# Altium footprint library 指南者.PcbLib: 53 footprints (part 2 of 4)
Each footprint in its own frame and in the unit in brackets; x right, y up, seen from the top. Pads: shape width x height; smd on the part's side, far side on the other; paste and mask are expansions set on the pad; w line width, h text height; cw(c..) or ccw(c..) is an arc to the next point about the centre after c.
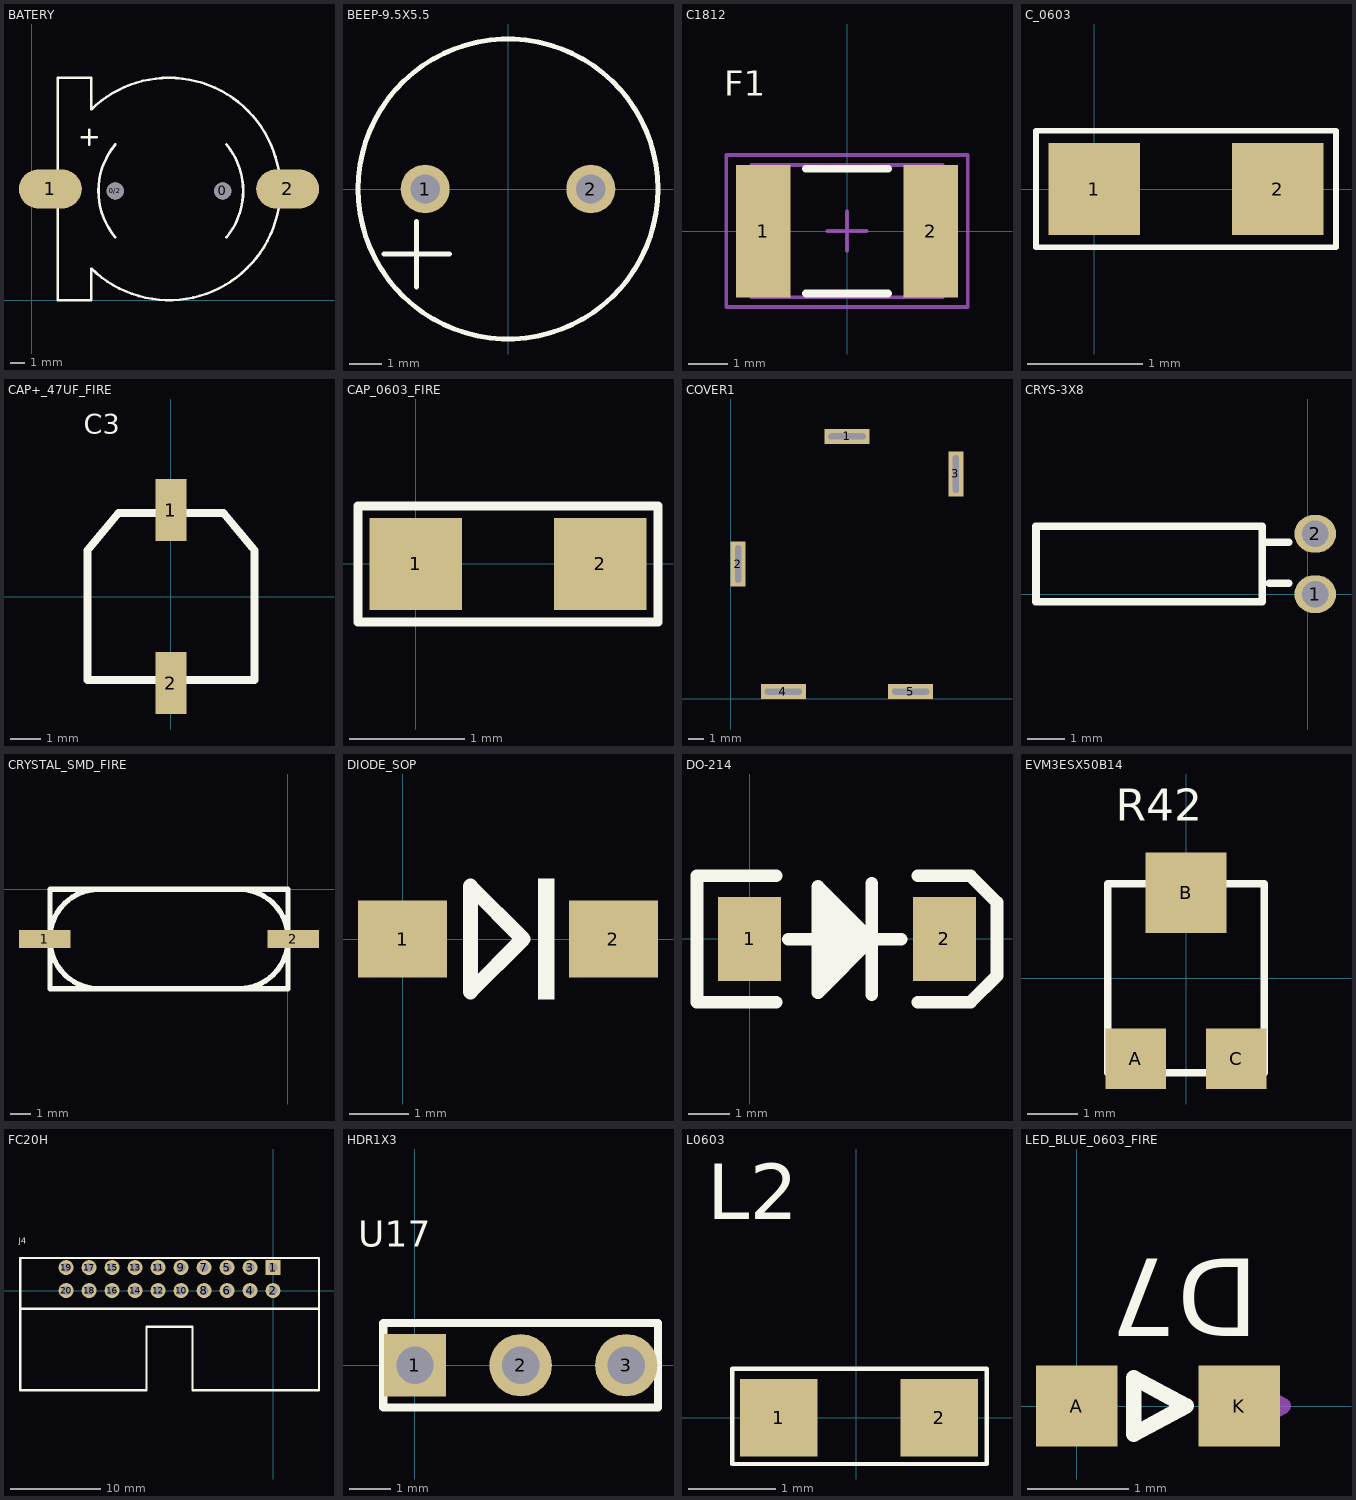
[diagram p1: the footprints below, top view; thin cyan lines are the x and y axes]

## BATERY [mil]
pads (4):
  round 46 hole 46: 0(515,295) 0/2(225,295)
  oval 169.29x106.3 smd: 1(50,300) 2(690,300)
Top Overlay:
  lines w7: 135,440 175,440 ; 155,420 155,460 ; 160.38,85.39 160,0 70,0 70,300 70,600 160,600 160.38,514.61 ; 160.48,85.29 ccw(c370,300) 668.19,267.08 ; 160.48,514.71 cw(c370,300) 370,600 cw(c370,300) 668.19,332.92 ; 224.77,170.28 cw(c375,295) 224.99,419.99 ; 525.01,170.01 ccw(c375,295) 525.01,419.99

## BEEP-9.5X5.5 [mm]
pads (2):
  round 1.5 hole 0.9: 1(-2.54,0) 2(2.54,0)
Top Overlay:
  circle w0.152: c0,0 r4.6
  lines w0.152: -3.8,-2 -1.8,-2 ; -2.8,-3 -2.8,-1

## C1812 [mm]
pads (2):
  rect 1.4x3.4 smd: 1(-2.15,0) 2(2.15,0)
Top Overlay:
  lines w0.2: -1.05,-1.6 1.05,-1.6 ; -1.05,1.6 1.05,1.6
  text "F1" at -3.15,3.473 h0.64
Mechanical 16:
  lines w0.1: -0.5,0 0.5,0 ; 0,-0.5 0,0.5 ; -3.1,-1.95 3.1,-1.95 3.1,1.95 -3.1,1.95 -3.1,-1.95 ; -2.45,-1.7 2.45,-1.7 2.45,1.7 -2.45,1.7 -2.45,-1.7

## C_0603 [mm]
pads (2):
  rect 0.8x0.8 smd: 1(0,0) 2(1.6,0)
Top Overlay:
  lines w0.051: -0.508,-0.508 2.108,-0.508 2.108,0.508 -0.508,0.508 -0.508,-0.508

## CAP+_47UF_FIRE [mm]
pads (2):
  rect 1x2 smd: 1(0,2.8) 2(0,-2.8)
Top Overlay:
  lines w0.254: -2.7,-2.7 2.7,-2.7 2.7,1.5 1.7,2.7 -1.7,2.7 -2.7,1.5 -2.7,-2.7
  text "C3" at -2.827,5.273 h0.64

## CAP_0603_FIRE [mm]
pads (2):
  rect 0.8x0.8 smd: 1(0,0) 2(1.6,0)
Top Layer:
  text "C1" at 0.007,-0.143 h0.4
Top Overlay:
  lines w0.076: -0.5,-0.502 2.1,-0.502 2.1,0.501 -0.5,0.501 -0.5,-0.502

## COVER1 [mm]
pads (5):
  rect 3x1 hole 0.4 slot 2.5 at 0 deg: 1(7.75,17.5) 4(3.5,0.5) 5(12,0.5)
  rect 1x3 hole 0.4 slot 2.5 at 90 deg: 2(0.5,9) 3(15,15)

## CRYS-3X8 [mm]
pads (2):
  oval 1.1x1 hole 0.7: 1(0.199,-0.003) 2(0.199,1.597)
Top Overlay:
  lines w0.2: -1.09,1.375 -0.5,1.375 ; -1.022,0.292 -0.5,0.292 ; -7.2,-0.2 -1.2,-0.2 -1.2,1.8 -7.2,1.8 -7.2,-0.2

## CRYSTAL_SMD_FIRE [mm]
pads (2):
  rect 2.5x0.85 smd: 1(-11.75,-2.4) 2(0.25,-2.4)
Top Overlay:
  lines w0.254: -11.5,-2.469 -11.5,-2.4 ; -11.5,-2.468 ccw(c-9.135,-2.435) -9.102,-4.8 ; -11.5,-2.398 cw(c-9.135,-2.365) -9.168,0 ; -2.398,0 cw(c-2.365,-2.365) 0,-2.332 ; -2.332,-4.8 ccw(c-2.365,-2.435) 0,-2.402 ; 0,-2.4 0,-2.331 ; -11.5,-4.8 -11.5,0 0,0 0,-4.8 -11.5,-4.8

## DIODE_SOP [mm]
pads (2):
  rect 1.5x1.3 smd: 1(0,0) 2(3.556,0)
Top Overlay:
  region: 2.286,-1.016 2.559,-1.016 2.559,1.016 2.286,1.016
  lines w0.254: 1.143,-0.889 2.032,0 1.143,0.889 1.143,-0.889

## DO-214 [mil]
pads (2):
  rect 60x80 smd: 1(0,0) 2(185,0)
Top Overlay:
  region: 64.92,-25.05 91,-25.05 91,22.87 64.92,22.87
  lines w12: 25,-60 -50,-60 -50,60 25,60 ; 36.92,-0.13 143.92,-0.13 ; 64.92,33.87 100.29,-1.51 66.66,-35.13 ; 115.92,-53.13 115.92,52.87 ; 160,-60 209.92,-60 235,-34.92 235,34.87 209.87,60 160,60 ; 64.92,-51.13 115.92,-0.13 115.92,-1.13 64.92,49.87 64.92,-51.13

## EVM3ESX50B14 [mm]
pads (3):
  rect 1.2x1.2 smd: A(-1,-1.6) C(1,-1.6)
  rect 1.6x1.6 smd: B(0,1.7)
Top Overlay:
  lines w0.15: -1.55,-1.875 1.55,-1.875 1.55,1.875 -1.55,1.875 -1.55,-1.875
  text "R42" at -1.397,3.124 h0.64

## FC20H [mil]
pads (20):
  rect 65x65 hole 40: 1(0,100)
  round 65 hole 40: 2(0,0) 3(-100,100) 4(-100,0) 5(-200,100) 6(-200,0) 7(-300,100) 8(-300,0) 9(-400,100) 10(-400,0) 11(-500,100) 12(-500,0) 13(-600,100) 14(-600,0) 15(-700,100) 16(-700,0) 17(-800,100) 18(-800,0) 19(-900,100) 20(-900,0)
Top Overlay:
  lines w10: -1100,-78.74 -1100,-433.07 -550,-433.07 -550,-157.48 -350,-157.48 -350,-433.07 200,-433.07 200,-78.74 ; -1100,-78.74 -1100,141.26 200,141.26 200,-78.74 ; -1100,-78.74 200,-78.74
  text "J4" at -1105,204.26 h25

## HDR1X3 [mm]
height 1.2
pads (3):
  rect 1.5x1.5 hole 0.9: 1(0,0)
  round 1.5 hole 0.9: 2(2.54,0) 3(5.08,0)
Top Overlay:
  lines w0.2: -0.762,-1.016 5.842,-1.016 5.842,1.016 -0.762,1.016 -0.762,-1.016
  text "U17" at -1.37,2.843 h0.64

## L0603 [mil]
pads (2):
  rect 35x35 smd: 1(-35,0) 2(37.49,0)
Top Overlay:
  lines w2: -56,-21 59,-21 59,22 -56,22 -56,-21
  text "L2" at -67.24,89.5 h25

## LED_BLUE_0603_FIRE [mm]
pads (2):
  rect 0.8x0.8 smd: A(0,0) K(1.6,0)
Top Overlay:
  lines w0.152: 0.562,-0.277 1.076,0.001 0.562,0.277 0.562,-0.277
  text "D7" at 1.79,1.45 h0.76
Mechanical 1:
  lines w0.152: 1.521,-0.277 2.035,0.001 1.521,0.277 1.521,-0.277